# Altium schematic symbol library dsPIC33FJ64GP802.SchLib: 1 symbol
Pins are listed as number, name and electrical type; pins without a type are passive.

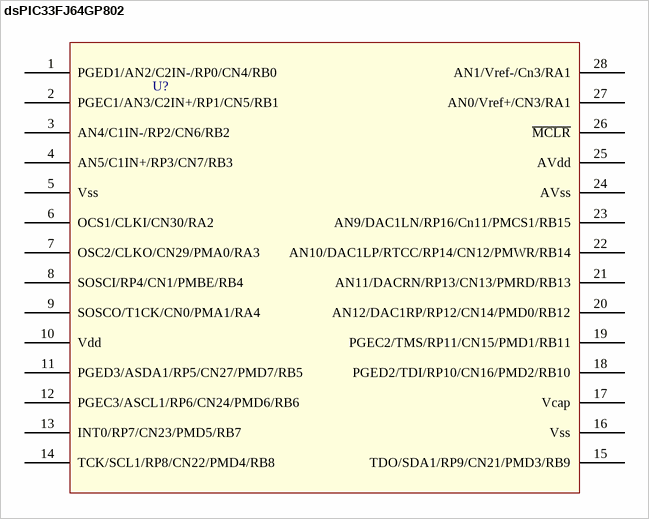
[diagram p0: symbol dsPIC33FJ64GP802]

## dsPIC33FJ64GP802
designator U?  (value not drawn)
pins: 1 PGED1/AN2/C2IN-/RP0/CN4/RB0, 2 PGEC1/AN3/C2IN+/RP1/CN5/RB1, 3 AN4/C1IN-/RP2/CN6/RB2, 4 AN5/C1IN+/RP3/CN7/RB3, 5 Vss, 6 OCS1/CLKI/CN30/RA2, 7 OSC2/CLKO/CN29/PMA0/RA3, 8 SOSCI/RP4/CN1/PMBE/RB4, 9 SOSCO/T1CK/CN0/PMA1/RA4, 10 Vdd, 11 PGED3/ASDA1/RP5/CN27/PMD7/RB5, 12 PGEC3/ASCL1/RP6/CN24/PMD6/RB6, 13 INT0/RP7/CN23/PMD5/RB7, 14 TCK/SCL1/RP8/CN22/PMD4/RB8, 15 TDO/SDA1/RP9/CN21/PMD3/RB9, 16 Vss, 17 Vcap, 18 PGED2/TDI/RP10/CN16/PMD2/RB10, 19 PGEC2/TMS/RP11/CN15/PMD1/RB11, 20 AN12/DAC1RP/RP12/CN14/PMD0/RB12, 21 AN11/DACRN/RP13/CN13/PMRD/RB13, 22 AN10/DAC1LP/RTCC/RP14/CN12/PMWR/RB14, 23 AN9/DAC1LN/RP16/Cn11/PMCS1/RB15, 24 AVss, 25 AVdd, 26 ~{MCLR}, 27 AN0/Vref+/CN3/RA1, 28 AN1/Vref-/Cn3/RA1